# Altium integrated library StrainGaugeAmpli.IntLib: 22 symbols
Pins are listed as number, name and electrical type; pins without a type are passive.

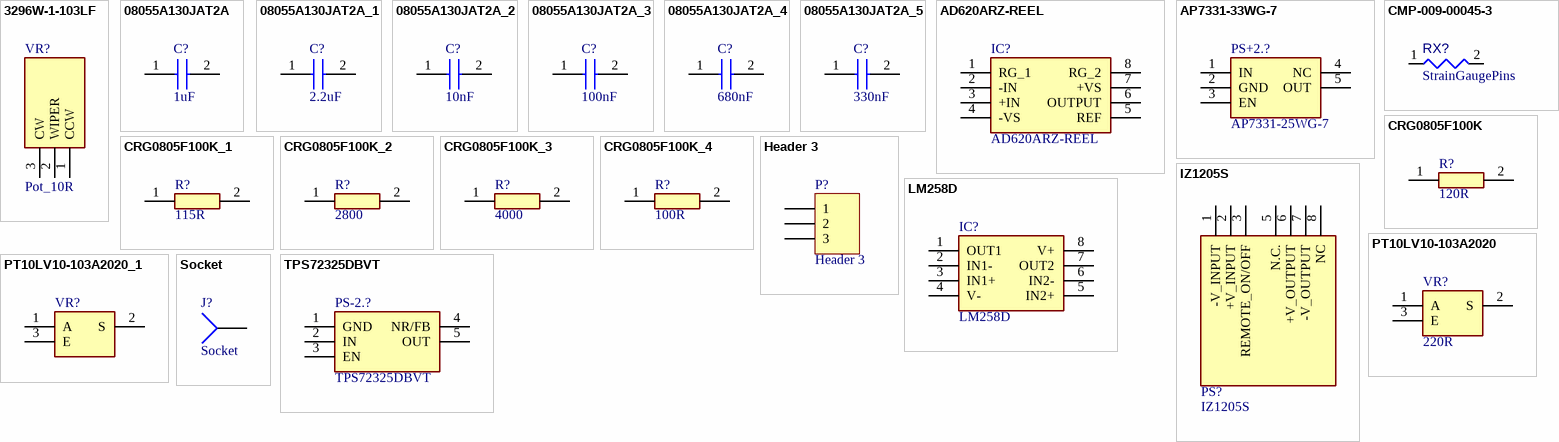
[diagram p0: symbols 3296W-1-103LF to TPS72325DBVT]

## 3296W-1-103LF
designator VR?, comment Pot_10R
Variable Resistor; Manufacturer_Name: Bourns; Manufacturer_Part_Number: 3296W-1-103LF; Datasheet Link: https://www.bourns.com/pdfs/3296.pdf; Mouser Part Number: 652-3296W-1-103LF; Mouser Price/Stock: https://www.mouser.co.uk/ProductDetail/Bourns/3296W-1-103LF?qs=CL3xLxiry19Id6AEaxYcng%3D%3D; Arrow Part Number: 3296W-1-103LF; Arrow Price/Stock: https://www.arrow.com/en/products/3296w-1-103lf/bourns?region=europe
footprint 3296W-1
pins: 1 CCW, 2 WIPER, 3 CW

## 08055A130JAT2A
designator C?, comment 1uF
Capacitor; Manufacturer_Name: AVX; Manufacturer_Part_Number: 08055A130JAT2A; Datasheet Link: https://componentsearchengine.com/Datasheets/1/06031A100FAT2A.pdf; Height: 0.94mm; Mouser Part Number: 581-08055A130JAT2A; Mouser Price/Stock: https://www.mouser.com/Search/Refine.aspx?Keyword=581-08055A130JAT2A
footprint CAPC2012X94N
pins: 1, 2

## 08055A130JAT2A_1
designator C?, comment 2.2uF
Capacitor; Manufacturer_Name: AVX; Manufacturer_Part_Number: 08055A130JAT2A; Datasheet Link: https://componentsearchengine.com/Datasheets/1/06031A100FAT2A.pdf; Height: 0.94mm; Mouser Part Number: 581-08055A130JAT2A; Mouser Price/Stock: https://www.mouser.com/Search/Refine.aspx?Keyword=581-08055A130JAT2A
footprint CAPC2012X94N
pins: 1, 2

## 08055A130JAT2A_2
designator C?, comment 10nF
Capacitor; Manufacturer_Name: AVX; Manufacturer_Part_Number: 08055A130JAT2A; Datasheet Link: https://componentsearchengine.com/Datasheets/1/06031A100FAT2A.pdf; Height: 0.94mm; Mouser Part Number: 581-08055A130JAT2A; Mouser Price/Stock: https://www.mouser.com/Search/Refine.aspx?Keyword=581-08055A130JAT2A
footprint CAPC2012X94N
pins: 1, 2

## 08055A130JAT2A_3
designator C?, comment 100nF
Capacitor; Manufacturer_Name: AVX; Manufacturer_Part_Number: 08055A130JAT2A; Datasheet Link: https://componentsearchengine.com/Datasheets/1/06031A100FAT2A.pdf; Height: 0.94mm; Mouser Part Number: 581-08055A130JAT2A; Mouser Price/Stock: https://www.mouser.com/Search/Refine.aspx?Keyword=581-08055A130JAT2A
footprint CAPC2012X94N
pins: 1, 2

## 08055A130JAT2A_4
designator C?, comment 680nF
Capacitor; Manufacturer_Name: AVX; Manufacturer_Part_Number: 08055A130JAT2A; Datasheet Link: https://componentsearchengine.com/Datasheets/1/06031A100FAT2A.pdf; Height: 0.94mm; Mouser Part Number: 581-08055A130JAT2A; Mouser Price/Stock: https://www.mouser.com/Search/Refine.aspx?Keyword=581-08055A130JAT2A
footprint CAPC2012X94N
pins: 1, 2

## 08055A130JAT2A_5
designator C?, comment 330nF
Capacitor; Manufacturer_Name: AVX; Manufacturer_Part_Number: 08055A130JAT2A; Datasheet Link: https://componentsearchengine.com/Datasheets/1/06031A100FAT2A.pdf; Height: 0.94mm; Mouser Part Number: 581-08055A130JAT2A; Mouser Price/Stock: https://www.mouser.com/Search/Refine.aspx?Keyword=581-08055A130JAT2A
footprint CAPC2012X94N
pins: 1, 2

## AD620ARZ-REEL
designator IC?
Integrated Circuit; Manufacturer_Name: Analog Devices; Datasheet Link: http://www.analog.com/media/en/technical-documentation/data-sheets/AD620.pdf; Height: 1.75mm; Manufacturer_Part_Number: AD620ARZ-REEL; Mouser Part Number: 584-AD620ARZ-R; Mouser Price/Stock: https://www.mouser.co.uk/ProductDetail/Analog-Devices/AD620ARZ-REEL?qs=NmRFExCfTkHbJAB6iFkAaA%3D%3D; Arrow Part Number: AD620ARZ-REEL; Arrow Price/Stock: https://www.arrow.com/en/products/ad620arz-reel/analog-devices
footprint SOIC127P600X175-8N
pins: 1 RG_1, 2 -IN, 3 +IN, 4 -VS, 5 REF, 6 OUTPUT, 7 +VS, 8 RG_2

## AP7331-33WG-7
designator PS+2.?, comment AP7331-25WG-7
Power Supply; Manufacturer_Name: Diodes Inc.; Manufacturer_Part_Number: AP7331-33WG-7; Datasheet Link: http://uk.rs-online.com/web/p/products/1219606; Height: 1.3mm; Mouser Part Number: 621-AP7331-33WG-7; Mouser Price/Stock: https://www.mouser.co.uk/ProductDetail/Diodes-Incorporated/AP7331-33WG-7?qs=vIZ3oKQCLxrSho%2FIWbe2%252BQ%3D%3D; Arrow Part Number: AP7331-33WG-7; Arrow Price/Stock: https://www.arrow.com/en/products/ap7331-33wg-7/diodes-incorporated
footprint SOT95P285X130-5N
pins: 1 IN, 2 GND, 3 EN, 4 NC, 5 OUT

## CMP-009-00045-3
designator RX?  value StrainGaugePins
Axial Resistor, 100 KOhm, +/- 1%, 0.25 W, -55 to 155 degC, 2-Pin THD, RoHS, Bulk; Manufacturer: Yageo; Power: 250mW; Voltage Rating: 250V; Datasheet URL: http://www.yageo.com/documents/recent/Yageo%20LR_MFR_2013.pdf; Package Quantity: 200; Mounting Technology: TH; Manufacturer URL: http://www.yageo.com/; Package Description: 2-Pin Axial Lead, Dia 2.4 mm, Body Length 6.3 mm; Package Reference: MFR-25; Case/Package: Axial; Max Operating Temperature: 155°C; Datasheet Version: Apr-13; Tolerance: 1%; Packaging: Bulk; Min Operating Temperature: -55°C; RoHS Compliant: True
footprint RESA60-630X240 (Axial Resistor, 2-Leads, Dia 2.4mm, Body Length 6.3mm)
pins: 1, 2
1 alternate drawing of the same symbol

## CRG0805F100K
designator R?, comment 120R
Resistor; Manufacturer_Name: TE Connectivity; Manufacturer_Part_Number: CRG0805F100K; Datasheet Link: http://www.te.com/commerce/DocumentDelivery/DDEController?Action=showdoc&DocId=Customer+Drawing%7F1623109%7FBA%7Fpdf%7FEnglish%7FENG_CD_1623109_BA.pdf%7F1623109-1; Height: 0.65mm; Mouser Part Number: 279-CRG0805F100K; Mouser Price/Stock: https://www.mouser.co.uk/ProductDetail/TE-Connectivity-Neohm/CRG0805F100K?qs=VHcS2MTj4gaSH6styLNYqg%3D%3D; Arrow Part Number: CRG0805F100K; Arrow Price/Stock: https://www.arrow.com/en/products/crg0805f100k/te-connectivity
footprint RESC2012X65N
pins: 1, 2

## CRG0805F100K_1
designator R?, comment 115R
Resistor; Manufacturer_Name: TE Connectivity; Manufacturer_Part_Number: CRG0805F100K; Datasheet Link: http://www.te.com/commerce/DocumentDelivery/DDEController?Action=showdoc&DocId=Customer+Drawing%7F1623109%7FBA%7Fpdf%7FEnglish%7FENG_CD_1623109_BA.pdf%7F1623109-1; Height: 0.65mm; Mouser Part Number: 279-CRG0805F100K; Mouser Price/Stock: https://www.mouser.co.uk/ProductDetail/TE-Connectivity-Neohm/CRG0805F100K?qs=VHcS2MTj4gaSH6styLNYqg%3D%3D; Arrow Part Number: CRG0805F100K; Arrow Price/Stock: https://www.arrow.com/en/products/crg0805f100k/te-connectivity
footprint RESC2012X65N
pins: 1, 2

## CRG0805F100K_2
designator R?, comment 2800
Resistor; Manufacturer_Name: TE Connectivity; Manufacturer_Part_Number: CRG0805F100K; Datasheet Link: http://www.te.com/commerce/DocumentDelivery/DDEController?Action=showdoc&DocId=Customer+Drawing%7F1623109%7FBA%7Fpdf%7FEnglish%7FENG_CD_1623109_BA.pdf%7F1623109-1; Height: 0.65mm; Mouser Part Number: 279-CRG0805F100K; Mouser Price/Stock: https://www.mouser.co.uk/ProductDetail/TE-Connectivity-Neohm/CRG0805F100K?qs=VHcS2MTj4gaSH6styLNYqg%3D%3D; Arrow Part Number: CRG0805F100K; Arrow Price/Stock: https://www.arrow.com/en/products/crg0805f100k/te-connectivity
footprint RESC2012X65N
pins: 1, 2

## CRG0805F100K_3
designator R?, comment 4000
Resistor; Manufacturer_Name: TE Connectivity; Manufacturer_Part_Number: CRG0805F100K; Datasheet Link: http://www.te.com/commerce/DocumentDelivery/DDEController?Action=showdoc&DocId=Customer+Drawing%7F1623109%7FBA%7Fpdf%7FEnglish%7FENG_CD_1623109_BA.pdf%7F1623109-1; Height: 0.65mm; Mouser Part Number: 279-CRG0805F100K; Mouser Price/Stock: https://www.mouser.co.uk/ProductDetail/TE-Connectivity-Neohm/CRG0805F100K?qs=VHcS2MTj4gaSH6styLNYqg%3D%3D; Arrow Part Number: CRG0805F100K; Arrow Price/Stock: https://www.arrow.com/en/products/crg0805f100k/te-connectivity
footprint RESC2012X65N
pins: 1, 2

## CRG0805F100K_4
designator R?, comment 100R
Resistor; Manufacturer_Name: TE Connectivity; Manufacturer_Part_Number: CRG0805F100K; Datasheet Link: http://www.te.com/commerce/DocumentDelivery/DDEController?Action=showdoc&DocId=Customer+Drawing%7F1623109%7FBA%7Fpdf%7FEnglish%7FENG_CD_1623109_BA.pdf%7F1623109-1; Height: 0.65mm; Mouser Part Number: 279-CRG0805F100K; Mouser Price/Stock: https://www.mouser.co.uk/ProductDetail/TE-Connectivity-Neohm/CRG0805F100K?qs=VHcS2MTj4gaSH6styLNYqg%3D%3D; Arrow Part Number: CRG0805F100K; Arrow Price/Stock: https://www.arrow.com/en/products/crg0805f100k/te-connectivity
footprint RESC2012X65N
pins: 1, 2

## Header 3
designator P?
Header, 3-Pin; LatestRevisionDate: 17-Jul-2002; LatestRevisionNote: Re-released for DXP Platform.; Publisher: Altium Limited
footprint HDR1X3 (Connector; Header; 3 Position)
signal-integrity model Connector
pins: 1, 2, 3

## IZ1205S
designator PS?
Power Supply; Manufacturer_Name: XP POWER; Datasheet Link: https://www.xppower.com/portals/0/pdfs/SF_IZ.pdf; Height: 11.1mm; Manufacturer_Part_Number: IZ1205S; Mouser Part Number: 209-IZ1205S; Mouser Price/Stock: https://www.mouser.co.uk/ProductDetail/XP-Power/IZ1205S?qs=w%2Fv1CP2dgqrcXpexIyZ%252BMg%3D%3D
footprint IZ1205S
pins: 1 -V_INPUT, 2 +V_INPUT, 3 REMOTE_ON/OFF, 5 N.C., 6 +V_OUTPUT, 7 -V_OUTPUT, 8 NC

## LM258D
designator IC?
Integrated Circuit; Manufacturer_Name: Texas Instruments; Datasheet Link: https://www.ti.com/lit/ds/symlink/lm358ba.pdf?ts=1593158783808&ref_url=https%253A%252F%252Fwww.ti.com%252Fsitesearch%252Fdocs%252Funiversalsearch.tsp%253FsearchTerm%253DLM258D; Height: 1.75mm; Manufacturer_Part_Number: LM258D; Mouser Part Number: 595-LM258D; Mouser Price/Stock: https://www.mouser.co.uk/ProductDetail/Texas-Instruments/LM258D?qs=afYny40WCj3%252BQVZnkBXQ5Q%3D%3D; Arrow Part Number: LM258D; Arrow Price/Stock: https://www.arrow.com/en/products/lm258d/texas-instruments
footprint SOIC127P600X175-8N
pins: 1 OUT1, 2 IN1-, 3 IN1+, 4 V-, 5 IN2+, 6 IN2-, 7 OUT2, 8 V+

## PT10LV10-103A2020
designator VR?, comment 220R
Variable Resistor; Manufacturer_Name: PIHER; Manufacturer_Part_Number: PT10LV10-103A2020; Datasheet Link: https://www.piher.net/pdf/12-PT10v03.pdf; Height: 5mm; Mouser Part Number: 531-PT10V-10K; Mouser Price/Stock: https://www.mouser.co.uk/ProductDetail/Amphenol-Piher/PT10LV10-103A2020?qs=PZ1ub9NEDaWrX8IHli%2FVDQ%3D%3D; Arrow Part Number: PT10LV10-103A2020; Arrow Price/Stock: https://www.arrow.com/en/products/pt10lv10-103a2020/piher
footprint PT10LV10473A2020PMS
pins: 1 A, 2 S, 3 E

## PT10LV10-103A2020_1
designator VR?
Variable Resistor; Manufacturer_Name: PIHER; Manufacturer_Part_Number: PT10LV10-103A2020; Datasheet Link: https://www.piher.net/pdf/12-PT10v03.pdf; Height: 5mm; Mouser Part Number: 531-PT10V-10K; Mouser Price/Stock: https://www.mouser.co.uk/ProductDetail/Amphenol-Piher/PT10LV10-103A2020?qs=PZ1ub9NEDaWrX8IHli%2FVDQ%3D%3D; Arrow Part Number: PT10LV10-103A2020; Arrow Price/Stock: https://www.arrow.com/en/products/pt10lv10-103a2020/piher
footprint PT10LV10473A2020PMS
pins: 1 A, 2 S, 3 E

## Socket
designator J?
LatestRevisionDate: 17-Jul-2002; LatestRevisionNote: Re-released for DXP Platform.; Publisher: Altium Limited
footprint PIN1 (Connector; Socket)
signal-integrity model Connector
pins: 1

## TPS72325DBVT
designator PS-2.?
Integrated Circuit; Manufacturer_Name: Texas Instruments; Datasheet Link: http://www.ti.com/general/docs/lit/getliterature.tsp?genericPartNumber=TPS723&fileType=pdf; Height: 1.45mm; Manufacturer_Part_Number: TPS72325DBVT; Mouser Part Number: 595-TPS72325DBVT; Mouser Price/Stock: https://www.mouser.co.uk/ProductDetail/Texas-Instruments/TPS72325DBVT/?qs=6zVL%252ByCp0mqucRjl8KaDcw%3D%3D; Arrow Part Number: TPS72325DBVT; Arrow Price/Stock: https://www.arrow.com/en/products/tps72325dbvt/texas-instruments
footprint SOT95P280X145-5N
pins: 1 GND, 2 IN, 3 EN, 4 NR/FB, 5 OUT